# Altium schematic symbol library InvenSense.SchLib: 4 symbols
Pins are listed as number, name and electrical type; pins without a type are passive.

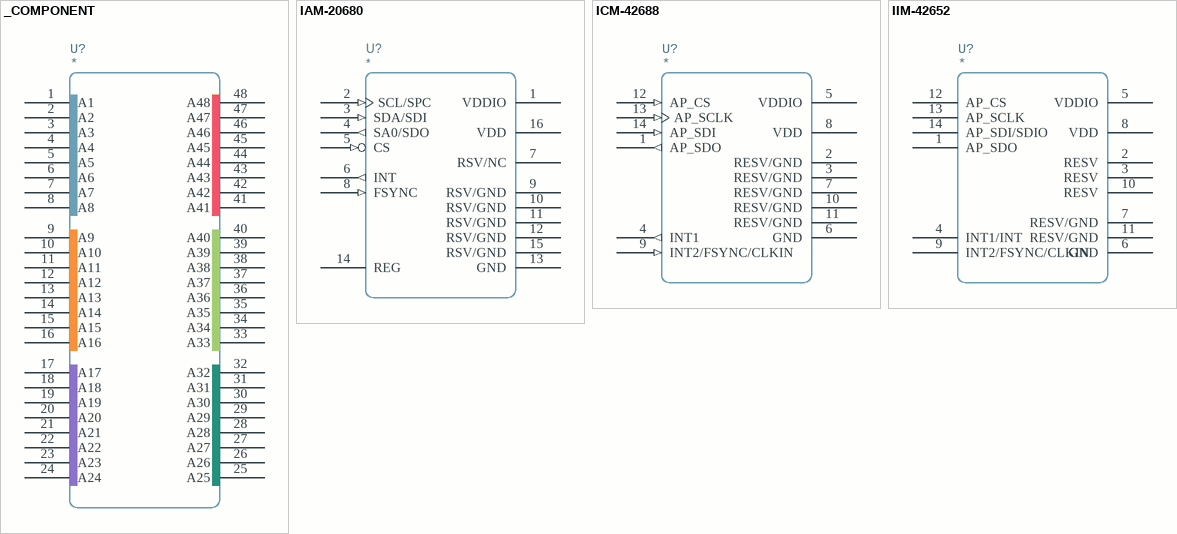
[diagram p0: symbols _COMPONENT to IIM-42652]

## _COMPONENT
designator U?
pins: 1 A1, 2 A2, 3 A3, 4 A4, 5 A5, 6 A6, 7 A7, 8 A8, 9 A9, 10 A10, 11 A11, 12 A12, 13 A13, 14 A14, 15 A15, 16 A16, 17 A17, 18 A18, 19 A19, 20 A20, 21 A21, 22 A22, 23 A23, 24 A24, 25 A25, 26 A26, 27 A27, 28 A28, 29 A29, 30 A30, 31 A31, 32 A32, 33 A33, 34 A34, 35 A35, 36 A36, 37 A37, 38 A38, 39 A39, 40 A40, 41 A41, 42 A42, 43 A43, 44 A44, 45 A45, 46 A46, 47 A47, 48 A48

## IAM-20680
designator U?
pins: 1 VDDIO, 2 SCL/SPC (in), 3 SDA/SDI (in), 4 SA0/SDO (out), 5 CS (in), 6 INT (out), 7 RSV/NC, 8 FSYNC (in), 9 RSV/GND, 10 RSV/GND, 11 RSV/GND, 12 RSV/GND, 13 GND, 14 REG, 15 RSV/GND, 16 VDD

## ICM-42688
designator U?
pins: 1 AP_SDO (out), 2 RESV/GND, 3 RESV/GND, 4 INT1 (out), 5 VDDIO, 6 GND, 7 RESV/GND, 8 VDD, 9 INT2/FSYNC/CLKIN (in), 10 RESV/GND, 11 RESV/GND, 12 AP_CS (in), 13 AP_SCLK (in), 14 AP_SDI (in)

## IIM-42652
designator U?
pins: 1 AP_SDO, 2 RESV, 3 RESV, 4 INT1/INT, 5 VDDIO, 6 GND, 7 RESV/GND, 8 VDD, 9 INT2/FSYNC/CLKIN, 10 RESV, 11 RESV/GND, 12 AP_CS, 13 AP_SCLK, 14 AP_SDI/SDIO